# Altium schematic symbol library DF11-12DP-2DS.Schlib: 1 symbol
Pins are listed as number, name and electrical type; pins without a type are passive.

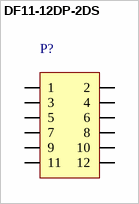
[diagram p0: symbol DF11-12DP-2DS]

## DF11-12DP-2DS
designator P?, comment HIROSE-2mm-12P-M-R  (value not drawn)
12 Pin Vertical Hirose PCB Header
pins: 1, 2, 3, 4, 5, 6, 7, 8, 9, 10, 11, 12